# Altium schematic symbol library BSPD_Schlib.SchLib: 42 symbols (part 2 of 3)
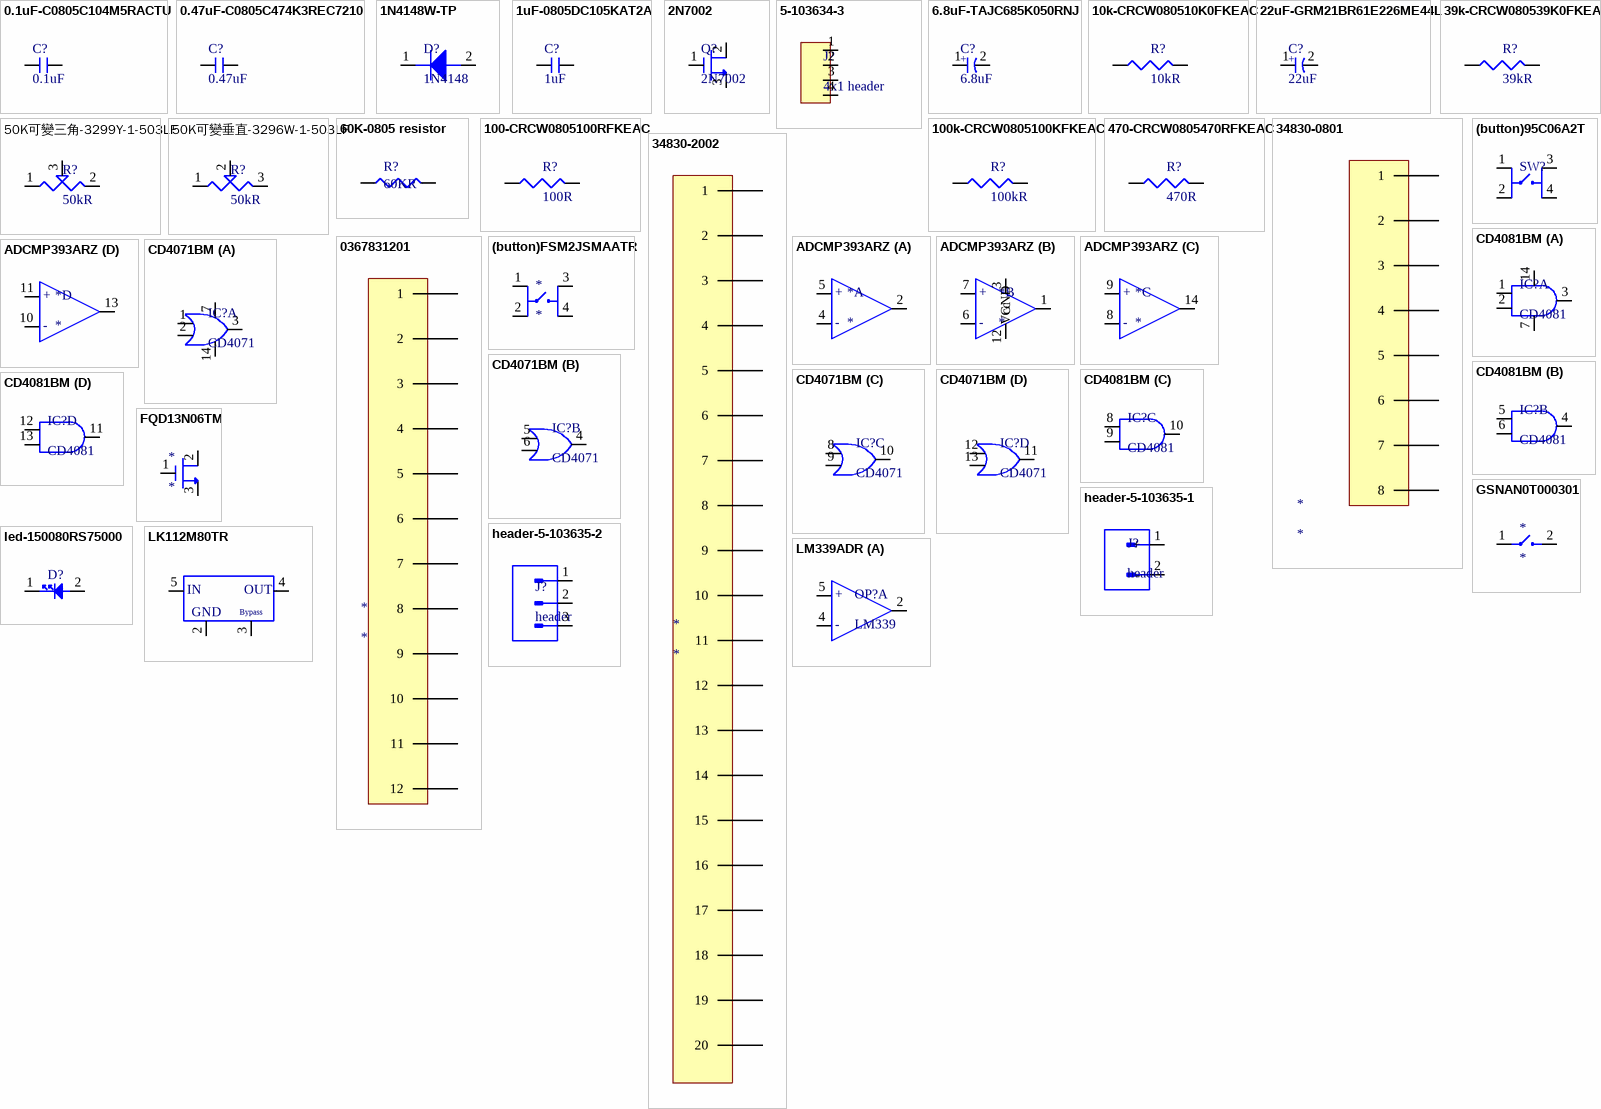
[diagram p2: symbols 0.1uF-C0805C104M5RACTU to LM339ADR]

## 0367831201
designator *
MX120G Sealed Header Connector Assembly, 12 Circuit, Color Mark Identification Black; Manufacturer: Molex; Manufacturer Part Number: 0367831201; Number of Positions: 12; Connector Type: Male Pin; Pitch: 0.126inch; Row Spacing: 0.233inch; Supplier 1: Mouser; Supplier Part Number 1: 538-36783-1201; Stock 1: 569; Pricing 1: 1 = 1.45000, 10 = 1.20000, 50 = 1.20000, 100 = 1.05000, 1000 = 0.81300, 10000 = 0.65700 (USD); Mount: Through Hole; Color: Black; Contact Plating: Tin; Contact Material: Brass; Housing Color: Black; Housing Material: Nylon; Min Operating Temperature: -40°C; Max Operating Temperature: 105°C; Number of Rows: 2; Fastening Type: Ramp; Packaging: Bulk; Termination: Solder; Number of Contacts: 12; Orientation: Right Angle; Series: MX120G™ 36783; Contact Type: Male Pin; Length: 37.3mm; Radiation Hardening: No; Lead Free: Lead Free; RoHS Compliant: Yes; ComponentLink1URL: https://datasheet.ciiva.com/6814/367831201-sd-6814032.pdf?src-supplier=Digi-Key; ComponentLink1Description: https://datasheet.ciiva.com/6814/367831201-sd-6814032.pdf?src-supplier=Digi-Key; ComponentLink2URL: http://datasheet.octopart.com/0367831201-Molex-datasheet-16367546.pdf?src-supplier=Molex; ComponentLink2Description: http://datasheet.octopart.com/0367831201-Molex-datasheet-16367546.pdf?src-supplier=Molex; ComponentLink3URL: http://datasheet.octopart.com/36783-1201-Molex-datasheet-13268039.pdf?src-supplier=Molex; ComponentLink3Description: http://datasheet.octopart.com/36783-1201-Molex-datasheet-13268039.pdf?src-supplier=Molex; ComponentLink4URL: http://datasheet.octopart.com/36783-1201-Molex-datasheet-34442202.pdf?src-supplier=Farnell; ComponentLink4Description: http://datasheet.octopart.com/36783-1201-Molex-datasheet-34442202.pdf?src-supplier=Farnell; ComponentLink5URL: http://datasheet.octopart.com/36783-1201-Molex-datasheet-41568726.pdf?src-supplier=Element14; ComponentLink5Description: http://datasheet.octopart.com/36783-1201-Molex-datasheet-41568726.pdf?src-supplier=Element14; ComponentLink6URL: http://datasheet.octopart.com/36783-1201-Molex-datasheet-66628265.pdf?src-supplier=Element14; ComponentLink6Description: http://datasheet.octopart.com/36783-1201-Molex-datasheet-66628265.pdf?src-supplier=Element14; ComponentLink7URL: http://datasheet.octopart.com/36783-1201-Molex-datasheet-101582201.pdf?src-supplier=Element14; ComponentLink7Description: http://datasheet.octopart.com/36783-1201-Molex-datasheet-101582201.pdf?src-supplier=Element14; ComponentLink8URL: http://datasheet.octopart.com/36783-1201-Molex-datasheet-21320486.pdf?src-supplier=Electro+Sonic; ComponentLink8Description: http://datasheet.octopart.com/36783-1201-Molex-datasheet-21320486.pdf?src-supplier=Electro+Sonic; ComponentLink9URL: http://datasheet.octopart.com/36783-1201-Molex-datasheet-27084827.pdf?src-supplier=Electro+Sonic; ComponentLink9Description: http://datasheet.octopart.com/36783-1201-Molex-datasheet-27084827.pdf?src-supplier=Electro+Sonic; ComponentLink10URL: http://datasheet.octopart.com/36783-1201-Molex-datasheet-37169560.pdf?src-supplier=Electro+Sonic; ComponentLink10Description: http://datasheet.octopart.com/36783-1201-Molex-datasheet-37169560.pdf?src-supplier=Electro+Sonic; ComponentLink11URL: http://datasheet.octopart.com/36783-1201-Molex-datasheet-120148052.pdf?src-supplier=Allied+Electronics; ComponentLink11Description: http://datasheet.octopart.com/36783-1201-Molex-datasheet-120148052.pdf?src-supplier=Allied+Electronics; ComponentLink12URL: http://datasheet.octopart.com/36783-1201-Molex-datasheet-140182688.pdf?src-supplier=Allied+Electronics; ComponentLink12Description: http://datasheet.octopart.com/36783-1201-Molex-datasheet-140182688.pdf?src-supplier=Allied+Electronics
footprint MOLEX_36783-1201
pins: 1, 2, 3, 4, 5, 6, 7, 8, 9, 10, 11, 12

## (button)95C06A2T
designator SW?  (value not drawn)
Switch Tactile N.O. SPST Round Button PC Pins 0.05A 12VDC 0.98N Thru-Hole Bulk; Manufacturer: Grayhill; Manufacturer Part Number: 95C06A2T; Mechanical Life: 1000000Cycles; Actuator Material: Nylon; Switch Function: Off-Mom; Max Current Rating: 50mA; Voltage Rating (DC): 12V; Contact Resistance: 100mR; Illumination Type: Non-Illuminated; Switch Travel: 0.25mm; Actuator Type: Standard; Actuator Length: 0.79mm; Supplier 1: Mouser; Stock 1: 3565; Pricing 1: 1 = 0.29000, 10 = 0.25600, 100 = 0.22100, 1000 = 0.19200, 2000 = 0.15900, 10000 = 0.14800 (USD); Mount: Through Hole; Contact Material: Brass; Contact Plating: Silver; Min Operating Temperature: -25°C; Max Operating Temperature: 70°C; Orientation: Straight; Throw Configuration: SPST; Operating Force: 0.98N; Packaging: Bulk; Max Voltage Rating (DC): 12V; Termination: PC Pins; Electrical Life: 1000000Cycles; Length: 6.2mm; Depth: 6.2mm; Lead Free: Lead Free; ComponentLink1URL: https://datasheet.ciiva.com/2901/tact-95c06-2901680.pdf?src-supplier=Digi-Key; ComponentLink1Description: https://datasheet.ciiva.com/2901/tact-95c06-2901680.pdf?src-supplier=Digi-Key; ComponentLink2URL: https://datasheet.ciiva.com/16425/tact-95c06-16425018.pdf?src-supplier=Future+Electronics; ComponentLink2Description: https://datasheet.ciiva.com/16425/tact-95c06-16425018.pdf?src-supplier=Future+Electronics; ComponentLink3URL: https://datasheet.ciiva.com/16154/66tact-95c06-16154718.pdf?src-supplier=Onlinecomponents.com; ComponentLink3Description: https://datasheet.ciiva.com/16154/66tact-95c06-16154718.pdf?src-supplier=Onlinecomponents.com; ComponentLink4URL: http://datasheet.octopart.com/95C06A2T-Grayhill-datasheet-8326586.pdf?src-supplier=Sager+Electronics; ComponentLink4Description: http://datasheet.octopart.com/95C06A2T-Grayhill-datasheet-8326586.pdf?src-supplier=Sager+Electronics; ComponentLink5URL: http://datasheet.octopart.com/95C06A2T-Grayhill-datasheet-41175902.pdf?src-supplier=Electro+Sonic; ComponentLink5Description: http://datasheet.octopart.com/95C06A2T-Grayhill-datasheet-41175902.pdf?src-supplier=Electro+Sonic; ComponentLink6URL: http://datasheet.octopart.com/95C06A2T-Grayhill-datasheet-112065354.pdf?src-supplier=Newark; ComponentLink6Description: http://datasheet.octopart.com/95C06A2T-Grayhill-datasheet-112065354.pdf?src-supplier=Newark; Supplier Part Number 1: 706-95C06A2T
footprint button-dip
pins: 1, 2, 3, 4

## (button)FSM2JSMAATR
designator *
Manufacturer: TE Connectivity / Alcoswitch; Manufacturer Part Number: FSM2JSMAATR; Actuator Material: Nylon; Current Rating: 50mA; Voltage Rating (DC): 24V; Max Voltage Rating (DC): 12V; Contact Resistance: 100mR; Operating Force: 2.55N; Throw Configuration: SPST; Electrical Life: 100000Cycles; Illumination Type: Illuminated; Actuator Length: 0.7mm; Supplier 1: Mouser; Stock 1: 20096; Pricing 1: 1 = 0.26000, 10 = 0.25400, 25 = 0.23700, 100 = 0.22400, 250 = 0.21100, 500 = 0.19300 (USD); Mount: Surface Mount; Case/Package: SMD/SMT; Contact Material: Copper Alloy; Contact Plating: Silver; Min Operating Temperature: -20°C; Max Operating Temperature: 85°C; Type: Switch; Orientation: Straight; Package Quantity: 1200; Packaging: Tape and Reel; Contact Current Rating: 50mA; Termination: Gull Wing; Lead Free: Lead Free; ELV: Compliant; REACH SVHC: Unknown; ComponentLink1URL: https://datasheet.ciiva.com/17075/0900766b80fa5b0b-17075899.pdf?src-supplier=Allied+Electronics; ComponentLink1Description: https://datasheet.ciiva.com/17075/0900766b80fa5b0b-17075899.pdf?src-supplier=Allied+Electronics; Supplier Part Number 1: 506-FSM2JSMAATR; Supplier 2: Mouser; Supplier Part Number 2: 611-GSNAN0T000301
pins: 1, 2, 3, 4

## ADCMP393ARZ
designator *
Comparator Quad R-R I/P 5.5V 14-Pin TSSOP Tube; Manufacturer: Analog Devices; Manufacturer Part Number: ADCMP393ARUZ; Voltage Gain: 132dB; Min Supply Voltage: 2.3V; Number of Elements: 4; Input Offset Voltage (Vos): 500uV; Input Bias Current: 30nA; Quiescent Current: 36.8uA; Propagation Delay: 4.2us; Hysteresis: 4mV; Common Mode Rejection Ratio: 74dB; Power Supply Rejection Ratio (PSRR): 80dB; Mount: Surface Mount; Case/Package: TSSOP; Number of Pins: 14; Contact Plating: Tin; Min Operating Temperature: -40°C; Max Operating Temperature: 125°C; Packaging: Rail/Tube; Max Supply Voltage: 5.5V; Type: General Purpose; Operating Supply Current: 36.8uA; Lead Free: Contains Lead; RoHS Compliant: Yes; ComponentLink1URL: https://datasheet.ciiva.com/48678/adcmp393-48678181.pdf?src-supplier=Avnet; ComponentLink1Description: https://datasheet.ciiva.com/48678/adcmp393-48678181.pdf?src-supplier=Avnet; ComponentLink2URL: http://datasheet.octopart.com/ADCMP393ARUZ-Analog-Devices-datasheet-27207877.pdf?src-supplier=Analog+Devices; ComponentLink2Description: http://datasheet.octopart.com/ADCMP393ARUZ-Analog-Devices-datasheet-27207877.pdf?src-supplier=Analog+Devices; ComponentLink3URL: http://datasheet.octopart.com/ADCMP393ARUZ-Analog-Devices-datasheet-38899545.pdf?src-supplier=Analog+Devices; ComponentLink3Description: http://datasheet.octopart.com/ADCMP393ARUZ-Analog-Devices-datasheet-38899545.pdf?src-supplier=Analog+Devices; ComponentLink4URL: http://datasheet.octopart.com/ADCMP393ARUZ-Analog-Devices-datasheet-62311843.pdf?src-supplier=Farnell; ComponentLink4Description: http://datasheet.octopart.com/ADCMP393ARUZ-Analog-Devices-datasheet-62311843.pdf?src-supplier=Farnell; ComponentLink5URL: http://datasheet.octopart.com/ADCMP393ARUZ-Analog-Devices-datasheet-78864183.pdf?src-supplier=Farnell; ComponentLink5Description: http://datasheet.octopart.com/ADCMP393ARUZ-Analog-Devices-datasheet-78864183.pdf?src-supplier=Farnell; ComponentLink6URL: http://datasheet.octopart.com/ADCMP393ARUZ-Analog-Devices-datasheet-140566748.pdf?src-supplier=Arrow.cn; ComponentLink6Description: http://datasheet.octopart.com/ADCMP393ARUZ-Analog-Devices-datasheet-140566748.pdf?src-supplier=Arrow.cn; Length: 8.75mm; Width: 4mm; Height: 1.5mm; REACH SVHC: No SVHC; ComponentLink7URL: http://www.mouser.com/ds/2/609/ADCMP391_392_393-878291.pdf?src-supplier=Mouser; ComponentLink7Description: http://www.mouser.com/ds/2/609/ADCMP391_392_393-878291.pdf?src-supplier=Mouser; ComponentLink8URL: http://components.arrow.com/part/dataview/65920778S977637N9143?src-supplier=Arrow+Electronics; ComponentLink8Description: http://components.arrow.com/part/dataview/65920778S977637N9143?src-supplier=Arrow+Electronics; ComponentLink9URL: http://www.analog.com/media/en/technical-documentation/data-sheets/ADCMP393.pdf?src-supplier=Digi-Key; ComponentLink9Description: http://www.analog.com/media/en/technical-documentation/data-sheets/ADCMP393.pdf?src-supplier=Digi-Key; ComponentLink10URL: http://www.farnell.com/datasheets/2042324.pdf?src-supplier=Element14; ComponentLink10Description: http://www.farnell.com/datasheets/2042324.pdf?src-supplier=Element14; ComponentLink11URL: http://www.analog.com/static/imported-files/data_sheets/ADCMP393.pdf?src-supplier=Avnet; ComponentLink11Description: http://www.analog.com/static/imported-files/data_sheets/ADCMP393.pdf?src-supplier=Avnet; ComponentLink12URL: http://datasheet.octopart.com/ADCMP393ARZ-Analog-Devices-datasheet-38899545.pdf?src-supplier=Newark; ComponentLink12Description: http://datasheet.octopart.com/ADCMP393ARZ-Analog-Devices-datasheet-38899545.pdf?src-supplier=Newark; ComponentLink13URL: http://datasheet.octopart.com/ADCMP393ARZ-Analog-Devices-datasheet-27207877.pdf?src-supplier=Farnell; ComponentLink13Description: http://datasheet.octopart.com/ADCMP393ARZ-Analog-Devices-datasheet-27207877.pdf?src-supplier=Farnell; ComponentLink14URL: http://datasheet.octopart.com/ADCMP393ARZ-Analog-Devices-datasheet-32045033.pdf?src-supplier=Newark; ComponentLink14Description: http://datasheet.octopart.com/ADCMP393ARZ-Analog-Devices-datasheet-32045033.pdf?src-supplier=Newark; ComponentLink15URL: http://datasheet.octopart.com/ADCMP393ARZ-Analog-Devices-datasheet-62311843.pdf?src-supplier=Element14; ComponentLink15Description: http://datasheet.octopart.com/ADCMP393ARZ-Analog-Devices-datasheet-62311843.pdf?src-supplier=Element14; ComponentLink16URL: http://datasheet.octopart.com/ADCMP393ARZ-Analog-Devices-datasheet-140566748.pdf?src-supplier=Arrow.cn; ComponentLink16Description: http://datasheet.octopart.com/ADCMP393ARZ-Analog-Devices-datasheet-140566748.pdf?src-supplier=Arrow.cn; Supplier 1: Mouser; Supplier Part Number 1: 584-ADCMP393ARZ
footprint SOIC127P600X175-14N
part A pins: 2 out, 4 -, 5 +
part B pins: 1 out, 3 Vcc, 6 -, 7 +, 12 GND
part C pins: 8 -, 9 +, 14 out
part D pins: 10 -, 11 +, 13 out

## CD4071BM
designator IC?, comment CD4071
Manufacturer: Harris; Manufacturer Part Number: CD4071BM; Supplier 1: Mouser; RoHS: No; Stock 1: 2308; Pricing 1: 1 = 0.49000, 10 = 0.39200, 100 = 0.31400, 250 = 0.31400, 500 = 0.24700, 1000 = 0.19100 (USD); Supplier Part Number 1: 595-CD4071BM
footprint CD4081BM
part A pins: 1, 2, 3, 7, 14
part B pins: 4, 5, 6
part C pins: 8, 9, 10
part D pins: 11, 12, 13

## CD4081BM
designator IC?, comment CD4081
In a Tube of 50, Texas Instruments CD4081BM, Quad 2-Input AND Logic Gate, 14-Pin SOIC; Min Supply Voltage: 3V; Max Supply Voltage: 18V; Number of Elements: 4; Number of Outputs: 1; Quiescent Current: 5uA; High Level Output Current: -4.2mA; Low Level Output Current: 4.2mA; Output Current: 6.8mA; Number of Inputs: 2; Propagation Delay: 90ns; Turn-On Delay Time: 12ns; Schmitt Trigger Input: No; Input Capacitance: 5pF; Power Dissipation: 500mW; Supplier 1: Mouser; Supplier Part Number 1: 595-CD4081BM; Manufacturer: Texas Instruments; Manufacturer Part Number: CD4081BM; Stock 1: 2050; Pricing 1: 1 = 0.52000, 10 = 0.43300, 100 = 0.26300, 1000 = 0.20300, 2500 = 0.17300, 10000 = 0.16100 (USD); Mount: Surface Mount; Case/Package: SOIC; Number of Pins: 14; Weight: 0.004564oz; Contact Plating: Gold; Min Operating Temperature: -55°C; Max Operating Temperature: 125°C; Logic Function: AND; Packaging: Rail/Tube; Package Quantity: 50; Number of Gates: 4; Number of Circuits: 4; Number of Input Lines: 2; Number of Output Lines: 1; Number of Bits: 4; Length: 8.65mm; Height: 1.58mm; Width: 3.91mm; Radiation Hardening: No; Lead Free: Lead Free; REACH SVHC: No SVHC; ComponentLink1URL: https://datasheet.ciiva.com/1626/cd4081b-1626210.pdf?src-supplier=Newark; ComponentLink1Description: https://datasheet.ciiva.com/1626/cd4081b-1626210.pdf?src-supplier=Newark; ComponentLink2URL: https://datasheet.ciiva.com/15090/getdatasheetpartid-83085-15090610.pdf?src-supplier=Verical; ComponentLink2Description: https://datasheet.ciiva.com/15090/getdatasheetpartid-83085-15090610.pdf?src-supplier=Verical; ComponentLink3URL: https://datasheet.ciiva.com/26865/cd4081bm-26865364.pdf?src-supplier=IIIC; ComponentLink3Description: https://datasheet.ciiva.com/26865/cd4081bm-26865364.pdf?src-supplier=IIIC; ComponentLink4URL: https://datasheet.ciiva.com/41455/001015529-da-01-en-ic-2-in-and-gate-qu-cd4081bm-soic-14-tid-41455446.pdf?src-supplier=Conrad; ComponentLink4Description: https://datasheet.ciiva.com/41455/001015529-da-01-en-ic-2-in-and-gate-qu-cd4081bm-soic-14-tid-41455446.pdf?src-supplier=Conrad; ComponentLink5URL: https://datasheet.ciiva.com/1866/cd4073b-1866564.pdf?src-supplier=Digi-Key; ComponentLink5Description: https://datasheet.ciiva.com/1866/cd4073b-1866564.pdf?src-supplier=Digi-Key; ComponentLink6URL: https://datasheet.ciiva.com/7949/1833366-7949020.pdf?src-supplier=Element14; ComponentLink6Description: https://datasheet.ciiva.com/7949/1833366-7949020.pdf?src-supplier=Element14; ComponentLink7URL: https://octopart.com/click/track?ai=8629&ct=datasheets&sig=02680e7&at=physicalpart&sid=370&ppid=42573&hlid=24875867&src-supplier=TI+store; ComponentLink7Description: https://octopart.com/click/track?ai=8629&ct=datasheets&sig=02680e7&at=physicalpart&sid=370&ppid=42573&hlid=24875867&src-supplier=TI+store; ComponentLink8URL: http://datasheet.octopart.com/CD4081BM-Texas-Instruments-datasheet-151253.pdf?src-supplier=TI+store; ComponentLink8Description: http://datasheet.octopart.com/CD4081BM-Texas-Instruments-datasheet-151253.pdf?src-supplier=TI+store; ComponentLink9URL: http://datasheet.octopart.com/CD4081BM-Texas-Instruments-datasheet-10253518.pdf?src-supplier=TI+store; ComponentLink9Description: http://datasheet.octopart.com/CD4081BM-Texas-Instruments-datasheet-10253518.pdf?src-supplier=TI+store; ComponentLink10URL: http://datasheet.octopart.com/CD4081BM-Texas-Instruments-datasheet-10253444.pdf?src-supplier=TI+store; ComponentLink10Description: http://datasheet.octopart.com/CD4081BM-Texas-Instruments-datasheet-10253444.pdf?src-supplier=TI+store; ComponentLink11URL: http://datasheet.octopart.com/CD4081BM-Texas-Instruments-datasheet-10794629.pdf?src-supplier=TI+store; ComponentLink11Description: http://datasheet.octopart.com/CD4081BM-Texas-Instruments-datasheet-10794629.pdf?src-supplier=TI+store; ComponentLink12URL: http://sigma.octopart.com/49249646/technical_drawing/Texas-Instruments-CD4081BM.pdf?src-supplier=TI+store; ComponentLink12Description: http://sigma.octopart.com/49249646/technical_drawing/Texas-Instruments-CD4081BM.pdf?src-supplier=TI+store; ComponentLink13URL: http://datasheet.octopart.com/CD4081BM-Texas-Instruments-datasheet-47642733.pdf?src-supplier=Farnell; ComponentLink13Description: http://datasheet.octopart.com/CD4081BM-Texas-Instruments-datasheet-47642733.pdf?src-supplier=Farnell; ComponentLink14URL: http://datasheet.octopart.com/CD4081BM-Texas-Instruments-datasheet-5313817.pdf?src-supplier=Newark; ComponentLink14Description: http://datasheet.octopart.com/CD4081BM-Texas-Instruments-datasheet-5313817.pdf?src-supplier=Newark; ComponentLink15URL: http://datasheet.octopart.com/CD4081BM-Texas-Instruments-datasheet-8372246.pdf?src-supplier=Newark; ComponentLink15Description: http://datasheet.octopart.com/CD4081BM-Texas-Instruments-datasheet-8372246.pdf?src-supplier=Newark; ComponentLink16URL: http://datasheet.octopart.com/CD4081BM-Texas-Instruments-datasheet-32637.pdf?src-supplier=Newark; ComponentLink16Description: http://datasheet.octopart.com/CD4081BM-Texas-Instruments-datasheet-32637.pdf?src-supplier=Newark; ComponentLink17URL: http://datasheet.octopart.com/CD4081BM-Texas-Instruments-datasheet-5254.pdf?src-supplier=Allied+Electronics; ComponentLink17Description: http://datasheet.octopart.com/CD4081BM-Texas-Instruments-datasheet-5254.pdf?src-supplier=Allied+Electronics; ComponentLink18URL: http://datasheet.octopart.com/CD4081BM-Texas-Instruments-datasheet-111545.pdf?src-supplier=Sierra+IC; ComponentLink18Description: http://datasheet.octopart.com/CD4081BM-Texas-Instruments-datasheet-111545.pdf?src-supplier=Sierra+IC; ComponentLink19URL: http://datasheet.octopart.com/CD4081BM-Texas-Instruments-datasheet-7596796.pdf?src-supplier=Jameco; ComponentLink19Description: http://datasheet.octopart.com/CD4081BM-Texas-Instruments-datasheet-7596796.pdf?src-supplier=Jameco; ComponentLink20URL: http://datasheet.octopart.com/CD4081BM-Texas-Instruments-datasheet-7626019.pdf?src-supplier=Farnell; ComponentLink20Description: http://datasheet.octopart.com/CD4081BM-Texas-Instruments-datasheet-7626019.pdf?src-supplier=Farnell; ComponentLink21URL: http://datasheet.octopart.com/CD4081BM-Texas-Instruments-datasheet-7628878.pdf?src-supplier=Farnell; ComponentLink21Description: http://datasheet.octopart.com/CD4081BM-Texas-Instruments-datasheet-7628878.pdf?src-supplier=Farnell; ComponentLink22URL: http://datasheet.octopart.com/CD4081BM-Texas-Instruments-datasheet-7547189.pdf?src-supplier=Farnell; ComponentLink22Description: http://datasheet.octopart.com/CD4081BM-Texas-Instruments-datasheet-7547189.pdf?src-supplier=Farnell; ComponentLink23URL: http://datasheet.octopart.com/CD4081BM-Texas-Instruments-datasheet-5327680.pdf?src-supplier=Farnell; ComponentLink23Description: http://datasheet.octopart.com/CD4081BM-Texas-Instruments-datasheet-5327680.pdf?src-supplier=Farnell; ComponentLink24URL: http://datasheet.octopart.com/CD4081BM-Texas-Instruments-datasheet-8703573.pdf?src-supplier=Farnell; ComponentLink24Description: http://datasheet.octopart.com/CD4081BM-Texas-Instruments-datasheet-8703573.pdf?src-supplier=Farnell; ComponentLink25URL: http://datasheet.octopart.com/CD4081BM-Texas-Instruments-datasheet-604431.pdf?src-supplier=Farnell; ComponentLink25Description: http://datasheet.octopart.com/CD4081BM-Texas-Instruments-datasheet-604431.pdf?src-supplier=Farnell; ComponentLink26URL: http://datasheet.octopart.com/CD4081BM-Texas-Instruments-datasheet-14147925.pdf?src-supplier=IIIC; ComponentLink26Description: http://datasheet.octopart.com/CD4081BM-Texas-Instruments-datasheet-14147925.pdf?src-supplier=IIIC; ComponentLink27URL: http://datasheet.octopart.com/CD4081BM-Texas-Instruments-datasheet-10549843.pdf?src-supplier=Factory+Futures; ComponentLink27Description: http://datasheet.octopart.com/CD4081BM-Texas-Instruments-datasheet-10549843.pdf?src-supplier=Factory+Futures; ComponentLink28URL: http://datasheet.octopart.com/CD4081BM-Texas-Instruments-datasheet-27379352.pdf?src-supplier=Newark; ComponentLink28Description: http://datasheet.octopart.com/CD4081BM-Texas-Instruments-datasheet-27379352.pdf?src-supplier=Newark
footprint CD4081BM
part A pins: 1 in, 2 in, 3 out, 7 GND, 14 Vcc
part B pins: 4 out, 5 in, 6 in
part C pins: 8 in, 9 in, 10 out
part D pins: 11 out, 12 in, 13 in

## FQD13N06TM
designator *
N-Channel Power MOSFET, QFET®, 60 V, 10 A, 140 mΩ, DPAK; Manufacturer: ON Semiconductor; Manufacturer Part Number: FQD13N06TM; Input Capacitance: 310pF; Number of Elements: 1; Max Power Dissipation: 2.5W; Rds On Max: 140mR; Rise Time: 25ns; Drain to Source Voltage (Vdss): 60V; Continuous Drain Current (ID): 10A; Fall Time: 15ns; Turn-Off Delay Time: 8ns; Turn-On Delay Time: 5ns; Element Configuration: Single; Gate to Source Voltage (Vgs): 25V; Supplier 1: Mouser; Supplier Part Number 1: 512-FQD13N06TM; Stock 1: 2365; Pricing 1: 1 = 0.64000, 10 = 0.51500, 50 = 0.51500, 100 = 0.37200, 1000 = 0.24300, 10000 = 0.20400 (USD); Mount: Surface Mount; Case/Package: DPAK; Number of Pins: 3; Weight: 0.26037g; Min Operating Temperature: -55°C; Max Operating Temperature: 150°C; Package Quantity: 2500; Packaging: Tape and Reel; Drain to Source Breakdown Voltage: 60V; Power Dissipation: 2.5W; Drain to Source Resistance: 140mR; Current Rating: 10A; Voltage Rating (DC): 60V; Polarity: N-CHANNEL; Series: QFET®; Length: 6.6mm; Width: 6.1mm; Height: 2.3mm; Radiation Hardening: No; Lead Free: Lead Free; RoHS Compliant: Yes; ComponentLink1URL: https://datasheet.ciiva.com/4444/fqd13n06-110086-4444756.pdf?src-supplier=Mouser; ComponentLink1Description: https://datasheet.ciiva.com/4444/fqd13n06-110086-4444756.pdf?src-supplier=Mouser; ComponentLink2URL: https://datasheet.ciiva.com/11175/fqd13n06-11175797.pdf?src-supplier=Avnet; ComponentLink2Description: https://datasheet.ciiva.com/11175/fqd13n06-11175797.pdf?src-supplier=Avnet; ComponentLink3URL: https://datasheet.ciiva.com/26142/fqd13n06-26142488.pdf?src-supplier=Avnet+Europe; ComponentLink3Description: https://datasheet.ciiva.com/26142/fqd13n06-26142488.pdf?src-supplier=Avnet+Europe; ComponentLink4URL: https://datasheet.ciiva.com/29751/fqd13n06-29751050.pdf?src-supplier=Digi-Key; ComponentLink4Description: https://datasheet.ciiva.com/29751/fqd13n06-29751050.pdf?src-supplier=Digi-Key; ComponentLink5URL: https://datasheet.ciiva.com/29751/fqd13n06-29751098.pdf?src-supplier=Digi-Key; ComponentLink5Description: https://datasheet.ciiva.com/29751/fqd13n06-29751098.pdf?src-supplier=Digi-Key; ComponentLink6URL: http://datasheet.octopart.com/FQD13N06TM-ON-Semiconductor-datasheet-137405632.pdf?src-supplier=Farnell; ComponentLink6Description: http://datasheet.octopart.com/FQD13N06TM-ON-Semiconductor-datasheet-137405632.pdf?src-supplier=Farnell; ComponentLink7URL: http://datasheet.octopart.com/FQD13N06TM-ON-Semiconductor-datasheet-85529495.pdf?src-supplier=ON+Semiconductor; ComponentLink7Description: http://datasheet.octopart.com/FQD13N06TM-ON-Semiconductor-datasheet-85529495.pdf?src-supplier=ON+Semiconductor; ComponentLink8URL: http://datasheet.octopart.com/FQD13N06TM-ON-Semiconductor-datasheet-86696048.pdf?src-supplier=ON+Semiconductor; ComponentLink8Description: http://datasheet.octopart.com/FQD13N06TM-ON-Semiconductor-datasheet-86696048.pdf?src-supplier=ON+Semiconductor; ComponentLink9URL: http://datasheet.octopart.com/FQD13N06TM-Fairchild-Semiconductor-datasheet-8641828.pdf?src-supplier=Fairchild+Semiconductor; ComponentLink9Description: http://datasheet.octopart.com/FQD13N06TM-Fairchild-Semiconductor-datasheet-8641828.pdf?src-supplier=Fairchild+Semiconductor; ComponentLink10URL: http://datasheet.octopart.com/FQD13N06TM-ON-Semiconductor-datasheet-33170005.pdf?src-supplier=Fairchild+Semiconductor; ComponentLink10Description: http://datasheet.octopart.com/FQD13N06TM-ON-Semiconductor-datasheet-33170005.pdf?src-supplier=Fairchild+Semiconductor; ComponentLink11URL: http://datasheet.octopart.com/FQD13N06TM-Fairchild-datasheet-119005.pdf?src-supplier=Digi-Key; ComponentLink11Description: http://datasheet.octopart.com/FQD13N06TM-Fairchild-datasheet-119005.pdf?src-supplier=Digi-Key; ComponentLink12URL: http://sigma.octopart.com/17346108/technical_drawing/Fairchild-Semiconductor-FQD13N06TM.pdf?src-supplier=Fairchild+Semiconductor; ComponentLink12Description: http://sigma.octopart.com/17346108/technical_drawing/Fairchild-Semiconductor-FQD13N06TM.pdf?src-supplier=Fairchild+Semiconductor; ComponentLink13URL: http://sigma.octopart.com/33068866/technical_drawing/Fairchild-Semiconductor-FQD13N06TM.pdf?src-supplier=Fairchild+Semiconductor; ComponentLink13Description: http://sigma.octopart.com/33068866/technical_drawing/Fairchild-Semiconductor-FQD13N06TM.pdf?src-supplier=Fairchild+Semiconductor
pins: 1, 2, 3

## GSNAN0T000301
designator *
C&k GSNAN0T000301; Manufacturer: C&K Components; Supplier 1: Mouser; Supplier Part Number 1: 611-GSNAN0T000301; Manufacturer Part Number: GSNAN0T000301; Stock 1: 7470; Pricing 1: 1 = 0.31000, 10 = 0.31000, 50 = 0.25400, 100 = 0.24200, 1000 = 0.21100, 10000 = 0.19800 (USD)
pins: 1, 2

## header-5-103635-1
designator J?, comment header
Conn Shrouded Header (4 Sides) HDR 2 POS 2.54mm Solder RA Thru-Hole Box/Tube; Manufacturer: TE Connectivity; Manufacturer Part Number: 5-103635-1; Contact Resistance: 15mR; Current Rating: 3A; Connector Type: Plug; Insulation Resistance: 5GR; Number of Positions: 2; Backwall/Post Interruptions: No (Without); Contact Retention: Yes (With); Plating Thickness: 2.54um; Row Spacing: 0.1inch; Tail Length: 3.3mm; Approvals: CSA; Supplier 1: Mouser; Supplier Part Number 1: 571-5-103635-1; Stock 1: 6279; Pricing 1: 1 = 0.82000, 10 = 0.68600, 100 = 0.60100, 500 = 0.53300, 1000 = 0.49000, 2500 = 0.43900, 10000 = 0.41200, 25000 = 0.39200 (USD); Mount: Through Hole; Contact Plating: Gold; Contact Material: Brass; Color: Black; Housing Color: Black; Housing Material: Thermoplastic; Contact Shape: Square; Min Operating Temperature: -65°C; Max Operating Temperature: 105°C; Packaging: Rail/Tube; Number of Rows: 1; Contact Gender: Male; Package Quantity: 70; Termination: Crimp; Number of Contacts: 2; Orientation: Right Angle; Mating Alignment: Yes (With); Mating Retention: Yes (With); PCB Mount Alignment: No (Without); Strain Relief: No (Without); Contact Current Rating: 3A; Length: 7.62mm; Height: 13.59mm; Lead Pitch: 2.54mm; Pitch: 2.54mm; Contact Mating Length: 0.23inch; Depth: 13.59mm; REACH SVHC: No SVHC; Flammability Rating: UL94 V-0; ComponentLink1URL: https://datasheet.ciiva.com/16318/eng-ds-4-1773458-0-ampmodu-mte-interconnect-sys-0411-16318801.pdf?src-supplier=Future+Electronics; ComponentLink1Description: https://datasheet.ciiva.com/16318/eng-ds-4-1773458-0-ampmodu-mte-interconnect-sys-0411-16318801.pdf?src-supplier=Future+Electronics; ComponentLink2URL: https://datasheet.ciiva.com/19462/752780-19462242.pdf?src-supplier=Jameco; ComponentLink2Description: https://datasheet.ciiva.com/19462/752780-19462242.pdf?src-supplier=Jameco; ComponentLink3URL: https://datasheet.ciiva.com/30493/0900766b80f9a68a-30493082.pdf?src-supplier=RSComponents; ComponentLink3Description: https://datasheet.ciiva.com/30493/0900766b80f9a68a-30493082.pdf?src-supplier=RSComponents; ComponentLink4URL: https://datasheet.ciiva.com/6045/1480701-6045513.pdf?src-supplier=Farnell; ComponentLink4Description: https://datasheet.ciiva.com/6045/1480701-6045513.pdf?src-supplier=Farnell; ComponentLink5URL: https://datasheet.ciiva.com/16657/eng-cs-1307819-section-5-cont-0808-16657957.pdf?src-supplier=Avnet+Europe; ComponentLink5Description: https://datasheet.ciiva.com/16657/eng-cs-1307819-section-5-cont-0808-16657957.pdf?src-supplier=Avnet+Europe; ComponentLink6URL: https://datasheet.ciiva.com/709/eng-cd-103635-s2-709865.pdf?src-supplier=Digi-Key; ComponentLink6Description: https://datasheet.ciiva.com/709/eng-cd-103635-s2-709865.pdf?src-supplier=Digi-Key; ComponentLink7URL: https://datasheet.ciiva.com/14641/70086824-14641690.pdf?src-supplier=Allied+Electronics; ComponentLink7Description: https://datasheet.ciiva.com/14641/70086824-14641690.pdf?src-supplier=Allied+Electronics; ComponentLink8URL: http://datasheet.octopart.com/5-103635-1-TE-Connectivity-datasheet-11077636.pdf?src-supplier=Newark; ComponentLink8Description: http://datasheet.octopart.com/5-103635-1-TE-Connectivity-datasheet-11077636.pdf?src-supplier=Newark; ComponentLink9URL: http://datasheet.octopart.com/5-103635-1-TE-Connectivity-datasheet-136861139.pdf?src-supplier=ShanghaiCT; ComponentLink9Description: http://datasheet.octopart.com/5-103635-1-TE-Connectivity-datasheet-136861139.pdf?src-supplier=ShanghaiCT; ComponentLink10URL: http://datasheet.octopart.com/5-103635-1-TE-Connectivity-datasheet-8324834.pdf?src-supplier=Master+Electronics; ComponentLink10Description: http://datasheet.octopart.com/5-103635-1-TE-Connectivity-datasheet-8324834.pdf?src-supplier=Master+Electronics; ComponentLink11URL: http://sigma.octopart.com/15108146/technical_drawing/TE-Connectivity-5-103635-1.pdf?src-supplier=TE+Connectivity; ComponentLink11Description: http://sigma.octopart.com/15108146/technical_drawing/TE-Connectivity-5-103635-1.pdf?src-supplier=TE+Connectivity; ComponentLink12URL: http://sigma.octopart.com/101748647/technical_drawing/TE-Connectivity-5-103635-1.pdf?src-supplier=ShanghaiCT; ComponentLink12Description: http://sigma.octopart.com/101748647/technical_drawing/TE-Connectivity-5-103635-1.pdf?src-supplier=ShanghaiCT; ComponentLink13URL: http://datasheet.octopart.com/5-103635-1-Tyco-Electronics-datasheet-13560061.pdf?src-supplier=TE+Connectivity; ComponentLink13Description: http://datasheet.octopart.com/5-103635-1-Tyco-Electronics-datasheet-13560061.pdf?src-supplier=TE+Connectivity; ComponentLink14URL: http://sigma.octopart.com/67302833/technical_drawing/TE-Connectivity-5-103635-1.pdf?src-supplier=TE+Connectivity; ComponentLink14Description: http://sigma.octopart.com/67302833/technical_drawing/TE-Connectivity-5-103635-1.pdf?src-supplier=TE+Connectivity; ComponentLink15URL: http://datasheet.octopart.com/5-103635-1-Tyco-Electronics-datasheet-8817613.pdf?src-supplier=Sager+Electronics; ComponentLink15Description: http://datasheet.octopart.com/5-103635-1-Tyco-Electronics-datasheet-8817613.pdf?src-supplier=Sager+Electronics; ComponentLink16URL: http://datasheet.octopart.com/5-103635-1-TE-Connectivity---AMP-datasheet-27832635.pdf?src-supplier=Farnell; ComponentLink16Description: http://datasheet.octopart.com/5-103635-1-TE-Connectivity---AMP-datasheet-27832635.pdf?src-supplier=Farnell; ComponentLink17URL: http://datasheet.octopart.com/5-103635-1-TE-Connectivity-datasheet-22147912.pdf?src-supplier=Allied+Electronics; ComponentLink17Description: http://datasheet.octopart.com/5-103635-1-TE-Connectivity-datasheet-22147912.pdf?src-supplier=Allied+Electronics; ComponentLink18URL: http://datasheet.octopart.com/5-103635-1-TE-Connectivity-datasheet-8318492.pdf?src-supplier=Jameco; ComponentLink18Description: http://datasheet.octopart.com/5-103635-1-TE-Connectivity-datasheet-8318492.pdf?src-supplier=Jameco; ComponentLink19URL: http://datasheet.octopart.com/5-103635-1-Tyco-Electronics-datasheet-508243.pdf?src-supplier=Future+Electronics; ComponentLink19Description: http://datasheet.octopart.com/5-103635-1-Tyco-Electronics-datasheet-508243.pdf?src-supplier=Future+Electronics; ComponentLink20URL: http://datasheet.octopart.com/5-103635-1-Tyco-Electronics-datasheet-8817976.pdf?src-supplier=Farnell; ComponentLink20Description: http://datasheet.octopart.com/5-103635-1-Tyco-Electronics-datasheet-8817976.pdf?src-supplier=Farnell; ComponentLink21URL: http://datasheet.octopart.com/5-103635-1-Tyco-Electronics-datasheet-9876728.pdf?src-supplier=Allied+Electronics; ComponentLink21Description: http://datasheet.octopart.com/5-103635-1-Tyco-Electronics-datasheet-9876728.pdf?src-supplier=Allied+Electronics; ComponentLink22URL: http://datasheet.octopart.com/5-103635-1-Tyco-Electronics-datasheet-13560509.pdf?src-supplier=Farnell; ComponentLink22Description: http://datasheet.octopart.com/5-103635-1-Tyco-Electronics-datasheet-13560509.pdf?src-supplier=Farnell
footprint 2pin-header
pins: 1 +, 2 -

## header-5-103635-2
designator J?, comment header
Conn Shrouded Header (4 Sides) HDR 3 POS 2.54mm Solder RA Thru-Hole Box/Tube; Manufacturer: TE Connectivity; Manufacturer Part Number: 5-103635-2; Contact Resistance: 15mR; Current Rating: 3A; Number of Positions: 3; Insulation Resistance: 5GR; Connector Type: Plug; Backwall/Post Interruptions: No (Without); Contact Retention: Yes (With); Plating Thickness: 2.54um; PCB Mount Retention: Without; PCB Mounting Orientation: Right Angle; Row Spacing: 0.1inch; Tail Length: 3.3mm; Approvals: CSA; Supplier 1: Mouser; Stock 1: 3096; Pricing 1: 1 = 1.32000, 10 = 1.10000, 100 = 0.96700, 500 = 0.85900, 1000 = 0.76400, 2500 = 0.73500 (USD); Mount: Through Hole; Contact Plating: Gold; Contact Material: Brass; Color: Black; Housing Color: Black; Housing Material: Thermoplastic; Contact Shape: Square; Min Operating Temperature: -65°C; Max Operating Temperature: 105°C; Number of Rows: 1; Packaging: Rail/Tube; Contact Gender: Male; Package Quantity: 52; Termination: Crimp; Number of Contacts: 3; Orientation: Right Angle; Mating Alignment: Yes (With); Mating Retention: Yes (With); PCB Mount Alignment: No (Without); Strain Relief: No (Without); Contact Current Rating: 3A; Length: 0.4inch; Height: 13.59mm; Lead Pitch: 2.54mm; Width: 0.4inch; Pitch: 2.54mm; Contact Mating Length: 0.23inch; Depth: 13.59mm; REACH SVHC: No SVHC; Flammability Rating: UL94 V-0; ComponentLink1URL: https://datasheet.ciiva.com/30493/0900766b80f9a68b-30493124.pdf?src-supplier=RSComponents; ComponentLink1Description: https://datasheet.ciiva.com/30493/0900766b80f9a68b-30493124.pdf?src-supplier=RSComponents; ComponentLink2URL: https://datasheet.ciiva.com/19461/752798-19461418.pdf?src-supplier=Jameco; ComponentLink2Description: https://datasheet.ciiva.com/19461/752798-19461418.pdf?src-supplier=Jameco; ComponentLink3URL: https://datasheet.ciiva.com/30057/eng-cs-1307819-section-5-cont-0808-30057509.pdf?src-supplier=Onlinecomponents.com; ComponentLink3Description: https://datasheet.ciiva.com/30057/eng-cs-1307819-section-5-cont-0808-30057509.pdf?src-supplier=Onlinecomponents.com; ComponentLink4URL: https://datasheet.ciiva.com/16684/eng-cs-1307819-section-5-cont-0808-16684822.pdf?src-supplier=Avnet+Europe; ComponentLink4Description: https://datasheet.ciiva.com/16684/eng-cs-1307819-section-5-cont-0808-16684822.pdf?src-supplier=Avnet+Europe; ComponentLink5URL: https://datasheet.ciiva.com/46442/1829811-46442918.pdf?src-supplier=Element14; ComponentLink5Description: https://datasheet.ciiva.com/46442/1829811-46442918.pdf?src-supplier=Element14; ComponentLink6URL: https://datasheet.ciiva.com/710/eng-cd-103635-s2-710040.pdf?src-supplier=Digi-Key; ComponentLink6Description: https://datasheet.ciiva.com/710/eng-cd-103635-s2-710040.pdf?src-supplier=Digi-Key; ComponentLink7URL: https://datasheet.ciiva.com/3118/eng-cs-1307819-section-5-cont-0808-3118264.pdf?src-supplier=Avnet; ComponentLink7Description: https://datasheet.ciiva.com/3118/eng-cs-1307819-section-5-cont-0808-3118264.pdf?src-supplier=Avnet; ComponentLink8URL: https://datasheet.ciiva.com/6005/eng-cd-103635-s2-6005515.pdf?src-supplier=Farnell; ComponentLink8Description: https://datasheet.ciiva.com/6005/eng-cd-103635-s2-6005515.pdf?src-supplier=Farnell; ComponentLink9URL: https://datasheet.ciiva.com/7703/1650927-7703291.pdf?src-supplier=Element14; ComponentLink9Description: https://datasheet.ciiva.com/7703/1650927-7703291.pdf?src-supplier=Element14; ComponentLink10URL: https://datasheet.ciiva.com/16375/eng-ds-4-1773458-0-ampmodu-mte-interconnect-sys-0411-16375323.pdf?src-supplier=Future+Electronics; ComponentLink10Description: https://datasheet.ciiva.com/16375/eng-ds-4-1773458-0-ampmodu-mte-interconnect-sys-0411-16375323.pdf?src-supplier=Future+Electronics; ComponentLink11URL: http://datasheet.octopart.com/5-103635-2-TE-Connectivity-datasheet-11077636.pdf?src-supplier=Newark; ComponentLink11Description: http://datasheet.octopart.com/5-103635-2-TE-Connectivity-datasheet-11077636.pdf?src-supplier=Newark; ComponentLink12URL: http://datasheet.octopart.com/5-103635-2-TE-Connectivity-datasheet-136861139.pdf?src-supplier=ShanghaiCT; ComponentLink12Description: http://datasheet.octopart.com/5-103635-2-TE-Connectivity-datasheet-136861139.pdf?src-supplier=ShanghaiCT; ComponentLink13URL: http://datasheet.octopart.com/5-103635-2-TE-Connectivity-datasheet-8324834.pdf?src-supplier=Element14; ComponentLink13Description: http://datasheet.octopart.com/5-103635-2-TE-Connectivity-datasheet-8324834.pdf?src-supplier=Element14; ComponentLink14URL: http://sigma.octopart.com/15108146/technical_drawing/TE-Connectivity-5-103635-2.pdf?src-supplier=TE+Connectivity; ComponentLink14Description: http://sigma.octopart.com/15108146/technical_drawing/TE-Connectivity-5-103635-2.pdf?src-supplier=TE+Connectivity; ComponentLink15URL: http://sigma.octopart.com/101748647/technical_drawing/TE-Connectivity-5-103635-2.pdf?src-supplier=Future+Electronics; ComponentLink15Description: http://sigma.octopart.com/101748647/technical_drawing/TE-Connectivity-5-103635-2.pdf?src-supplier=Future+Electronics; ComponentLink16URL: http://datasheet.octopart.com/5-103635-2-Agastat-datasheet-13560061.pdf?src-supplier=Element14; ComponentLink16Description: http://datasheet.octopart.com/5-103635-2-Agastat-datasheet-13560061.pdf?src-supplier=Element14; ComponentLink17URL: http://sigma.octopart.com/67302833/technical_drawing/TE-Connectivity-5-103635-2.pdf?src-supplier=TE+Connectivity; ComponentLink17Description: http://sigma.octopart.com/67302833/technical_drawing/TE-Connectivity-5-103635-2.pdf?src-supplier=TE+Connectivity; ComponentLink18URL: http://datasheet.octopart.com/5-103635-2-TE-Connectivity---AMP-datasheet-27832635.pdf?src-supplier=Farnell; ComponentLink18Description: http://datasheet.octopart.com/5-103635-2-TE-Connectivity---AMP-datasheet-27832635.pdf?src-supplier=Farnell; ComponentLink19URL: http://datasheet.octopart.com/5-103635-2-TE-Connectivity-datasheet-9784454.pdf?src-supplier=Allied+Electronics; ComponentLink19Description: http://datasheet.octopart.com/5-103635-2-TE-Connectivity-datasheet-9784454.pdf?src-supplier=Allied+Electronics; ComponentLink20URL: http://datasheet.octopart.com/5-103635-2-TE-Connectivity-datasheet-7579224.pdf?src-supplier=Jameco; ComponentLink20Description: http://datasheet.octopart.com/5-103635-2-TE-Connectivity-datasheet-7579224.pdf?src-supplier=Jameco; ComponentLink21URL: http://datasheet.octopart.com/5-103635-2-Tyco-Electronics-datasheet-8817976.pdf?src-supplier=Farnell; ComponentLink21Description: http://datasheet.octopart.com/5-103635-2-Tyco-Electronics-datasheet-8817976.pdf?src-supplier=Farnell; ComponentLink22URL: http://datasheet.octopart.com/5-103635-2-Tyco-Electronics-datasheet-508243.pdf?src-supplier=Farnell; ComponentLink22Description: http://datasheet.octopart.com/5-103635-2-Tyco-Electronics-datasheet-508243.pdf?src-supplier=Farnell; ComponentLink23URL: http://datasheet.octopart.com/5-103635-2-Tyco-Electronics-datasheet-529336.pdf?src-supplier=Farnell; ComponentLink23Description: http://datasheet.octopart.com/5-103635-2-Tyco-Electronics-datasheet-529336.pdf?src-supplier=Farnell; ComponentLink24URL: http://datasheet.octopart.com/5-103635-2-Tyco-Electronics-datasheet-5313028.pdf?src-supplier=Farnell; ComponentLink24Description: http://datasheet.octopart.com/5-103635-2-Tyco-Electronics-datasheet-5313028.pdf?src-supplier=Farnell; ComponentLink25URL: http://datasheet.octopart.com/5-103635-2-Tyco-Electronics-datasheet-5314212.pdf?src-supplier=Farnell; ComponentLink25Description: http://datasheet.octopart.com/5-103635-2-Tyco-Electronics-datasheet-5314212.pdf?src-supplier=Farnell; ComponentLink26URL: http://datasheet.octopart.com/5-103635-2-Tyco-Electronics-datasheet-5388268.pdf?src-supplier=Farnell; ComponentLink26Description: http://datasheet.octopart.com/5-103635-2-Tyco-Electronics-datasheet-5388268.pdf?src-supplier=Farnell; ComponentLink27URL: http://datasheet.octopart.com/5-103635-2-Tyco-Electronics-datasheet-5398832.pdf?src-supplier=Farnell; ComponentLink27Description: http://datasheet.octopart.com/5-103635-2-Tyco-Electronics-datasheet-5398832.pdf?src-supplier=Farnell; ComponentLink28URL: http://datasheet.octopart.com/5-103635-2-Tyco-Electronics-datasheet-5403185.pdf?src-supplier=Farnell; ComponentLink28Description: http://datasheet.octopart.com/5-103635-2-Tyco-Electronics-datasheet-5403185.pdf?src-supplier=Farnell; ComponentLink29URL: http://datasheet.octopart.com/5-103635-2-Tyco-Electronics-datasheet-5458970.pdf?src-supplier=Farnell; ComponentLink29Description: http://datasheet.octopart.com/5-103635-2-Tyco-Electronics-datasheet-5458970.pdf?src-supplier=Farnell; ComponentLink30URL: http://datasheet.octopart.com/5-103635-2-Tyco-Electronics-datasheet-13560510.pdf?src-supplier=Farnell; ComponentLink30Description: http://datasheet.octopart.com/5-103635-2-Tyco-Electronics-datasheet-13560510.pdf?src-supplier=Farnell; ComponentLink31URL: http://datasheet.octopart.com/5-103635-2-TE-Connectivity---AMP-datasheet-8817613.pdf?src-supplier=Sager+Electronics; ComponentLink31Description: http://datasheet.octopart.com/5-103635-2-TE-Connectivity---AMP-datasheet-8817613.pdf?src-supplier=Sager+Electronics; Supplier Part Number 1: 571-5-103635-2
footprint 3PIN-header
pins: 1, 2, 3

## led-150080RS75000
designator D?  (value not drawn)
On a Reel of 4000, 2 V Red LED 2012 (0805) SMD, Wurth Elektronik WL-SMCW 150080RS75000; Manufacturer: Würth Elektronik; Luminous Intensity: 150mcd; Viewing Angle: 140°; Forward Voltage: 2V; Wavelength: 625nm; Lens Style: Clear; Forward Current: 30mA; Test Current: 20mA; Supplier 1: Mouser; Supplier Part Number 1: 710-150080RS75000; Manufacturer Part Number: 150080RS75000; Stock 1: 24117; Pricing 1: 1 = 0.18000, 10 = 0.17500, 25 = 0.17400, 50 = 0.16200, 100 = 0.13900, 250 = 0.12300 (USD); Mount: Surface Mount; Case/Package: 0805; Color: Red; Case Code (Metric): 2012; Case Code (Imperial): 0805; Min Operating Temperature: -40°C; Max Operating Temperature: 85°C; Package Quantity: 4000; Packaging: Tape and Reel; Dominant Wavelength: 625nm; Length: 2mm; Height: 0.7mm; Width: 1.25mm; REACH SVHC: Unknown; ComponentLink1URL: https://datasheet.ciiva.com/22656/150080rs75000-22656961.pdf?src-supplier=Element14; ComponentLink1Description: https://datasheet.ciiva.com/22656/150080rs75000-22656961.pdf?src-supplier=Element14; ComponentLink2URL: https://datasheet.ciiva.com/29279/759435-da-01-en-chipled-0805-w-kl-rot-150080rs75000-29279032.pdf?src-supplier=Conrad; ComponentLink2Description: https://datasheet.ciiva.com/29279/759435-da-01-en-chipled-0805-w-kl-rot-150080rs75000-29279032.pdf?src-supplier=Conrad; ComponentLink3URL: http://datasheet.octopart.com/150080RS75000-W%C3%BCrth-Elektronik-datasheet-15983792.pdf?src-supplier=Element14; ComponentLink3Description: http://datasheet.octopart.com/150080RS75000-W%C3%BCrth-Elektronik-datasheet-15983792.pdf?src-supplier=Element14; ComponentLink4URL: http://datasheet.octopart.com/150080RS75000-W%C3%BCrth-Elektronik-datasheet-41196443.pdf?src-supplier=Newark; ComponentLink4Description: http://datasheet.octopart.com/150080RS75000-W%C3%BCrth-Elektronik-datasheet-41196443.pdf?src-supplier=Newark
footprint led-0805
pins: 1, 2

## LK112M80TR
designator ?
In a Pack of 10, STMicroelectronics LK112M80TR, LDO Regulator, 150mA, 8 V 5-Pin, SOT-23; Output Voltage: 8V; Number of Outputs: 1; Min Input Voltage: 8.5V; Max Input Voltage: 14V; Dropout Voltage: 290mV; Input Bias Current: 175uA; Quiescent Current: 250uA; Polarity: Positive; Output Type: Fixed; Supplier 1: Mouser; Supplier Part Number 1: 511-LK112M80TR; Manufacturer: STMicroelectronics; Manufacturer Part Number: LK112M80TR; Stock 1: 3114; Pricing 1: 1 = 0.56000, 10 = 0.47100, 100 = 0.30400, 1000 = 0.24300, 3000 = 0.20500, 9000 = 0.19800 (USD); Mount: Surface Mount; Case/Package: SOT-23; Number of Pins: 5; Min Operating Temperature: -40°C; Max Operating Temperature: 125°C; Max Output Current: 150mA; Package Quantity: 1; Packaging: Tape and Reel; Output Current: 150mA; Number of Regulators: 1; Min Current Limit: 150mA; Min Output Voltage: 8V; Length: 3mm; Height: 1.3mm; Width: 1.75mm; Radiation Hardening: No; Lead Free: Lead Free; ComponentLink1URL: https://datasheet.ciiva.com/41440/001185843-da-01-en-ic-reg-ldo-8v-0-lk112m80tr-sot-23-5-stm-41440959.pdf?src-supplier=Conrad; ComponentLink1Description: https://datasheet.ciiva.com/41440/001185843-da-01-en-ic-reg-ldo-8v-0-lk112m80tr-sot-23-5-stm-41440959.pdf?src-supplier=Conrad; ComponentLink2URL: https://datasheet.ciiva.com/2042/cd00002190-2042435.pdf?src-supplier=Digi-Key; ComponentLink2Description: https://datasheet.ciiva.com/2042/cd00002190-2042435.pdf?src-supplier=Digi-Key; ComponentLink3URL: https://datasheet.ciiva.com/2042/cd00002190-2042433.pdf?src-supplier=Digi-Key; ComponentLink3Description: https://datasheet.ciiva.com/2042/cd00002190-2042433.pdf?src-supplier=Digi-Key; ComponentLink4URL: https://datasheet.ciiva.com/2042/cd00002190-2042434.pdf?src-supplier=Digi-Key; ComponentLink4Description: https://datasheet.ciiva.com/2042/cd00002190-2042434.pdf?src-supplier=Digi-Key; ComponentLink5URL: http://datasheet.octopart.com/LK112M80TR-STMicroelectronics-datasheet-39139443.pdf?src-supplier=Newark; ComponentLink5Description: http://datasheet.octopart.com/LK112M80TR-STMicroelectronics-datasheet-39139443.pdf?src-supplier=Newark; ComponentLink6URL: http://datasheet.octopart.com/LK112M80TR-STMicroelectronics-datasheet-10836775.pdf?src-supplier=Future+Electronics; ComponentLink6Description: http://datasheet.octopart.com/LK112M80TR-STMicroelectronics-datasheet-10836775.pdf?src-supplier=Future+Electronics; ComponentLink7URL: http://datasheet.octopart.com/LK112M80TR-STMicroelectronics-datasheet-115472.pdf?src-supplier=Sierra+IC; ComponentLink7Description: http://datasheet.octopart.com/LK112M80TR-STMicroelectronics-datasheet-115472.pdf?src-supplier=Sierra+IC
footprint LK112M80TR (SOT23, 5-Leads, Body 2.90x2.80mm, Pitch 0.95mm, IPC Medium Density)
pins: 2, 3, 4, 5
text: IN; OUT; GND; Bypass

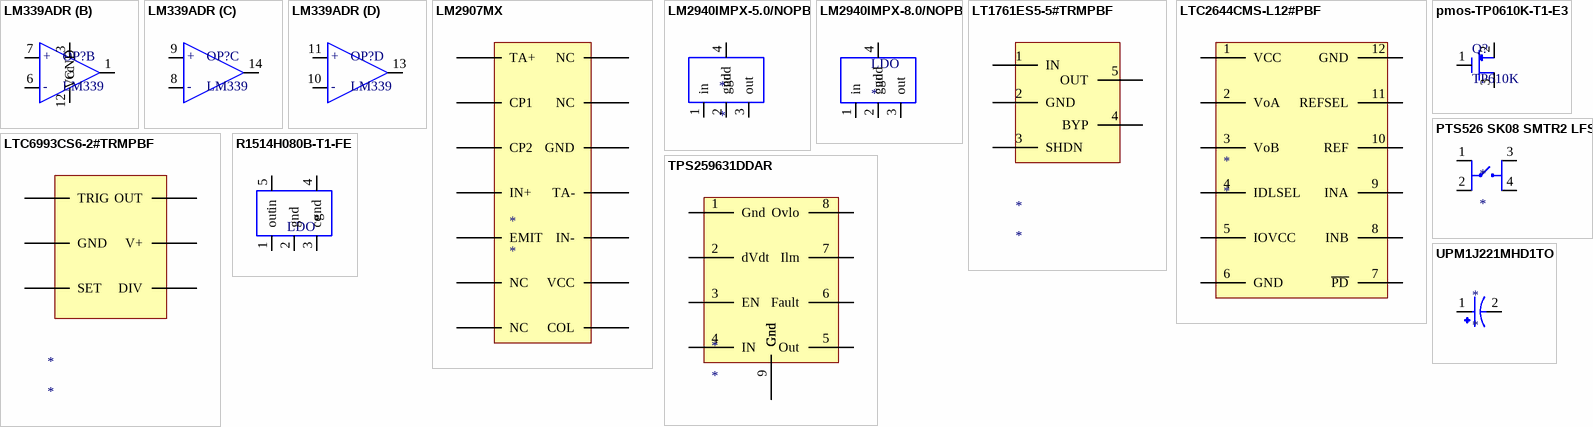
[diagram p1: symbols LM339ADR to UPM1J221MHD1TO]

## LM339ADR
designator OP?, comment LM339
Manufacturer: Rochester Electronics; Manufacturer Part Number: LM339ADR; Nominal Supply Current: 2mA; Output Current: 16mA; Number of Channels: 4; Quiescent Current: 800uA; Supplier 1: Mouser; Supplier Part Number 1: 595-LM339ADR; RoHS: No; Stock 1: 22756; Pricing 1: 1 = 0.37000, 10 = 0.27500, 100 = 0.14900, 1000 = 0.11200, 2500 = 0.09700, 10000 = 0.09000 (USD); Case/Package: SOIC; Number of Pins: 14; Packaging: Bulk; Lead Free: Lead Free; REACH SVHC: No SVHC
footprint LM339ADR
part A pins: 2 out, 4 -, 5 +
part B pins: 1 out, 3 Vcc, 6 -, 7 +, 12 GND
part C pins: 8 -, 9 +, 14 out
part D pins: 10 -, 11 +, 13 out

## LM2907MX
designator *
FVC 14-Pin SOIC T/R; Manufacturer: TI National Semiconductor; Manufacturer Part Number: LM2907MX; Max Supply Voltage: 28V; Min Supply Voltage: 12V; Supplier 1: Digi-Key; Supplier Part Number 1: LM2907MXCT-ND; RoHS: No; Pricing 1: 1 = 2.84000 (USD); Case/Package: SOIC; Number of Pins: 14; Min Operating Temperature: -40°C; Max Operating Temperature: 85°C; Packaging: Tape and Reel; Package Quantity: 1; Radiation Hardening: No; Lead Free: Contains Lead; ComponentLink1URL: https://datasheet.ciiva.com/26887/lm2907mx-26887521.pdf?src-supplier=IIIC; ComponentLink1Description: https://datasheet.ciiva.com/26887/lm2907mx-26887521.pdf?src-supplier=IIIC; ComponentLink2URL: https://datasheet.ciiva.com/6598/lm2907-n-6598237.pdf?src-supplier=Digi-Key; ComponentLink2Description: https://datasheet.ciiva.com/6598/lm2907-n-6598237.pdf?src-supplier=Digi-Key; ComponentLink3URL: https://datasheet.ciiva.com/6598/lm2907-n-6598238.pdf?src-supplier=Digi-Key; ComponentLink3Description: https://datasheet.ciiva.com/6598/lm2907-n-6598238.pdf?src-supplier=Digi-Key; ComponentLink4URL: https://datasheet.ciiva.com/6598/lm2907-n-6598239.pdf?src-supplier=Digi-Key; ComponentLink4Description: https://datasheet.ciiva.com/6598/lm2907-n-6598239.pdf?src-supplier=Digi-Key
pins: 1 TA+, 2 CP1, 3 CP2, 4 IN+, 5 EMIT, 6 NC, 7 NC, 8 COL, 9 VCC, 10 IN-, 11 TA-, 12 GND, 13 NC, 14 NC